# Altium footprint library cahrgebot_digital.PcbLib: 72 footprints (part 4 of 5)
Each footprint in its own frame and in the unit in brackets; x right, y up, seen from the top. Pads: shape width x height; smd on the part's side, far side on the other; paste and mask are expansions set on the pad; w line width, h text height; cw(c..) or ccw(c..) is an arc to the next point about the centre after c.
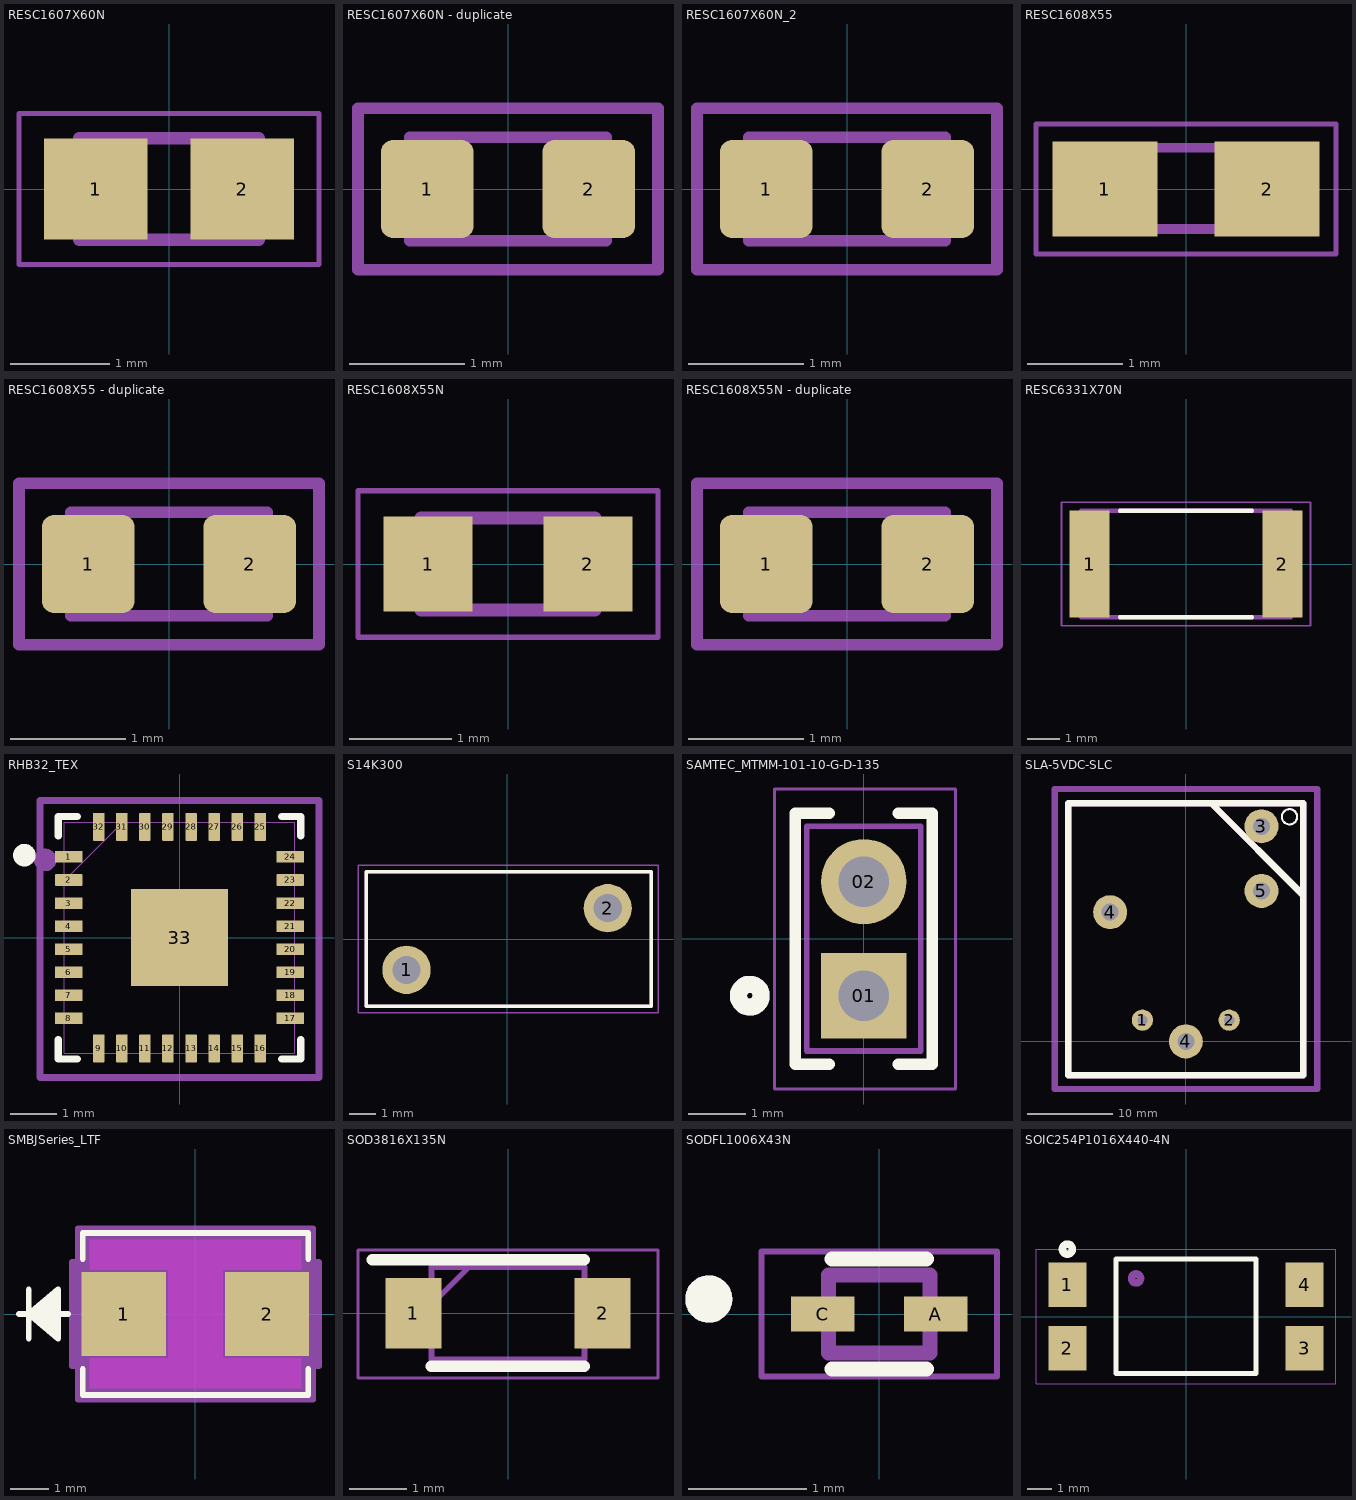
[diagram p3: the footprints below, top view; thin cyan lines are the x and y axes]

## RESC1607X60N [mm]
pads (2):
  rect 1.04x1.02 smd: 1(-0.735,0) 2(0.735,0)
Mechanical 13:
  lines w0.127: -0.9,-0.51 -0.9,0.51 0.9,0.51 0.9,-0.51 -0.9,-0.51
Mechanical 15:
  lines w0.05: -1.508,-0.761 -1.508,0.761 1.508,0.761 1.508,-0.761 -1.508,-0.761

## RESC1607X60N - duplicate [mm]
height 0.9
pads (2):
  rrect25% 0.8x0.85 smd mask+0.076: 1(-0.7,0) 2(0.7,0)
Top Component Outline:
  lines w0.1: -0.85,-0.45 -0.85,0.45 0.85,0.45 0.85,-0.45 -0.85,-0.45
Top Courtyard:
  lines w0.1: -1.3,-0.7 -1.3,0.7 1.3,0.7 1.3,-0.7 -1.3,-0.7
Top Designator:
  text ".Designator" at -3.627,1.19 h1.52
3D body "User Library-SMD CAPACITOR.SLDPRT": height 0.78, standoff -0.02, extent -0.8,-0.4 0.8,0.4

## RESC1607X60N_2 [mm]
height 0.9
pads (2):
  rrect25% 0.8x0.85 smd mask+0.076: 1(-0.7,0) 2(0.7,0)
Top Component Outline:
  lines w0.1: -0.85,-0.45 -0.85,0.45 0.85,0.45 0.85,-0.45 -0.85,-0.45
Top Courtyard:
  lines w0.1: -1.3,-0.7 -1.3,0.7 1.3,0.7 1.3,-0.7 -1.3,-0.7
Top Designator:
  text ".Designator" at -3.627,1.19 h1.52
3D body "User Library-SMD CAPACITOR.SLDPRT": height 0.78, standoff -0.02, extent -0.8,-0.4 0.8,0.4

## RESC1608X55 [mm]
pads (2):
  rect 1.1x1 smd: 1(-0.85,0) 2(0.85,0)
Mechanical 13:
  lines w0.102: -0.356,-0.419 0.356,-0.419 ; -0.356,0.432 0.356,0.432
Mechanical 15:
  lines w0.051: -1.573,-0.683 -1.573,0.683 1.573,0.683 1.573,-0.683 -1.573,-0.683

## RESC1608X55 - duplicate [mm]
height 0.55
pads (2):
  rrect25% 0.8x0.85 smd mask+0.076: 1(-0.7,0) 2(0.7,0)
Top Component Outline:
  lines w0.1: -0.85,-0.45 0.85,-0.45 0.85,0.45 -0.85,0.45 -0.85,-0.45
Top Courtyard:
  lines w0.1: -1.3,-0.7 1.3,-0.7 1.3,0.7 -1.3,0.7 -1.3,-0.7
Top Designator:
  text ".Designator" at -3.627,1.19 h1.52
3D body "User Library-SMD CAPACITOR.SLDPRT": height 0.78, standoff -0.02, extent -0.8,-0.4 0.8,0.4

## RESC1608X55N [mm]
pads (2):
  rect 0.87x0.93 smd: 1(-0.78,0) 2(0.78,0)
Mechanical 13:
  lines w0.127: -0.85,-0.45 -0.85,0.45 0.85,0.45 0.85,-0.45 -0.85,-0.45
Mechanical 15:
  lines w0.05: -1.465,-0.715 -1.465,0.715 1.465,0.715 1.465,-0.715 -1.465,-0.715
3D body "step_temp.STEP": height 0.55, standoff 0, extent -0.8,-0.4 0.8,0.4

## RESC1608X55N - duplicate [mm]
height 0.9
pads (2):
  rrect25% 0.8x0.85 smd mask+0.076: 1(-0.7,0) 2(0.7,0)
Top Component Outline:
  lines w0.1: -0.85,-0.45 0.85,-0.45 0.85,0.45 -0.85,0.45 -0.85,-0.45
Top Courtyard:
  lines w0.1: -1.3,-0.7 1.3,-0.7 1.3,0.7 -1.3,0.7 -1.3,-0.7
Top Designator:
  text ".Designator" at -3.627,1.19 h1.52
3D body "User Library-SMD CAPACITOR.SLDPRT": height 0.78, standoff -0.02, extent -0.8,-0.4 0.8,0.4

## RESC6331X70N [mm]
pads (2):
  rect 1.24x3.32 smd: 1(-2.99,0) 2(2.99,0)
Top Overlay:
  lines w0.127: -2.05,-1.65 2.05,-1.65 ; -2.05,1.65 2.05,1.65
Top Component Outline:
  lines w0.127: -3.25,-1.65 -3.25,1.65 3.25,1.65 3.25,-1.65 -3.25,-1.65
Top Courtyard:
  lines w0.05: -3.858,-1.91 -3.858,1.91 3.858,1.91 3.858,-1.91 -3.858,-1.91
Top Designator:
  text ".Designator" at -3.605,2.398 h1.52
3D body "step_temp.STEP": height 0.7, standoff 0, extent -3.15,-1.575 3.15,1.575

## RHB32_TEX [mm]
height 1
pads (33):
  rrect10% 0.6x0.25 smd paste-2.1 mask+0.076: 1(-2.4,1.75) 2(-2.4,1.25) 3(-2.4,0.75) 4(-2.4,0.25) 5(-2.4,-0.25) 6(-2.4,-0.75) 7(-2.4,-1.25) 8(-2.4,-1.75) 17(2.4,-1.75) 18(2.4,-1.25) 19(2.4,-0.75) 20(2.4,-0.25) 21(2.4,0.25) 22(2.4,0.75) 23(2.4,1.25) 24(2.4,1.75)
  rrect10% 0.25x0.6 smd paste-2.1 mask+0.076: 9(-1.75,-2.4) 10(-1.25,-2.4) 11(-0.75,-2.4) 12(-0.25,-2.4) 13(0.25,-2.4) 14(0.75,-2.4) 15(1.25,-2.4) 16(1.75,-2.4) 25(1.75,2.4) 26(1.25,2.4) 27(0.75,2.4) 28(0.25,2.4) 29(-0.25,2.4) 30(-0.75,2.4) 31(-1.25,2.4) 32(-1.75,2.4)
  rect 2.1x2.1 smd paste-2.1 mask+0.076: 33(0,0)
Top Overlay:
  circle w0.254: c-3.361,1.787 r0.117
  lines w0.152: -2.627,-2.208 -2.627,-2.627 -2.208,-2.627 ; -2.627,2.208 -2.627,2.627 -2.208,2.627 ; 2.208,-2.627 2.627,-2.627 2.627,-2.208 ; 2.208,2.627 2.627,2.627 2.627,2.208
Top Paste:
  region: 1.04,-0.1 0.1,-0.1 0.1,-1.04 1.04,-1.04
  region: 1.04,1.04 0.1,1.04 0.1,0.1 1.04,0.1
  region: -0.1,-0.1 -1.04,-0.1 -1.04,-1.04 -0.1,-1.04
  region: -0.1,1.04 -1.04,1.04 -1.04,0.1 -0.1,0.1
Top Component Outline:
  circle w0.254: c-2.909,1.684 r0.117
  lines w0.025: -2.5,1.23 -1.23,2.5 ; -2.5,-2.5 -2.5,2.5 2.5,2.5 2.5,-2.5 -2.5,-2.5
Top Courtyard:
  lines w0.152: -3.025,-3.03 3.022,-3.03 3.022,2.973 -3.025,2.973 -3.025,-3.03
Top Designator:
  text ".Designator" at -3.655,3.303 h1.52
3D body "RHB0032M.stp": height 1, standoff 0, extent -2.5,-2.5 2.5,2.5

## S14K300 [mm]
height 18.5
pads (2):
  round 1.8 hole 1.05: 1(-3.75,-1.15) 2(3.75,1.15)
Top Overlay:
  lines w0.127: -5.248,-2.5 -5.248,2.5 5.377,2.5 5.377,-2.5 -5.248,-2.5
Top Component Outline:
  lines w0.127: -5.248,-2.5 5.377,-2.5 5.377,2.5 -5.248,2.5 -5.248,-2.5
Top Courtyard:
  lines w0.05: -5.56,-2.75 5.626,-2.75 5.626,2.75 -5.56,2.75 -5.56,-2.75

## SAMTEC_MTMM-101-10-G-D-135 [mm]
height 1.5
pads (2):
  rect 1.5x1.5 hole 0.89: 01(0,-1)
  round 1.5 hole 0.89: 02(0,1)
Top Overlay:
  circle w0.3: c-2,-1 r0.2
  lines w0.2: -0.605,-2.2 -1.2,-2.2 -1.2,2.2 -0.605,2.2 ; 0.605,-2.2 1.2,-2.2 1.2,2.2 0.605,2.2
Top Component Outline:
  circle w0.3: c-2,-1 r0.2
  lines w0.1: -1,-1.97 1,-1.97 1,1.97 -1,1.97 -1,-1.97
Top Courtyard:
  lines w0.05: -1.568,-2.637 1.611,-2.637 1.611,2.626 -1.568,2.626 -1.568,-2.637
Top Designator:
  text ".Designator" at -3.425,2.955 h1.52

## SLA-5VDC-SLC [mm] "Relay 5V - 30A"
height 19.8
pads (6):
  round 2.5 hole 1.2: 1(-5.1,2.5) 2(5.1,2.5)
  round 4 hole 2: 3(8.9,25.3) 4(-8.9,15.2) 4(0,0) 5(8.9,17.7)
Top Overlay:
  circle w0.254: c12.192,26.416 r0.898
  lines w0.762: 3.048,27.94 13.716,17.272 ; -13.8,-4 13.8,-4 13.8,28 -13.8,28 -13.8,-4
Top Component Outline:
  lines w0.762: 3.048,27.94 13.716,17.272 ; -13.8,-4 13.8,-4 13.8,28 -13.8,28 -13.8,-4
Top Courtyard:
  lines w0.762: -15.437,-5.596 15.481,-5.596 15.481,29.682 -15.437,29.682 -15.437,-5.596
Top Designator:
  text ".Designator" at -4.05,30.799 h1.52

## SMBJSeries_LTF [mil]
pads (2):
  rect 86x86 smd paste+0 mask+0: 1(-73,0) 2(73,0)
Top Layer keep-out:
  region: -108,-75.5 -108,-45 108,-45 108,-75.5
  region: -108,45 -108,75.5 108,75.5 108,45
  region: -28,-45 -28,45 28,45 28,-45
Top Overlay:
  lines w6: -180,0 -130,0 ; -170,-25 -170,25 ; -140,-20 -170,0 ; -140,-15 -170,0 ; -140,-10 -170,0 ; -140,-5 -170,0 ; -140,5 -170,0 ; -140,10 -170,0 ; -140,15 -170,0 ; -140,20 -170,0 ; -115,-56.1 -115,-82.5 115,-82.5 115,-56.1 ; -115,56.1 -115,82.5 115,82.5 115,56.1 ; -170,0 -140,-25 -140,25 -170,0
Keep-Out Layer:
  region: -28,-45 -28,45 28,45 28,-45
Mechanical 13:
  lines w1: -180,0 -130,0 ; -170,-25 -170,25 ; -140,-20 -170,0 ; -140,-15 -170,0 ; -140,-10 -170,0 ; -140,-5 -170,0 ; -140,5 -170,0 ; -140,10 -170,0 ; -140,15 -170,0 ; -140,20 -170,0 ; -170,0 -140,-25 -140,25 -170,0 ; -110,-77.5 -110,77.5 110,77.5 110,-77.5 -110,-77.5
Mechanical 15:
  region: -120,-53 -126,-53 -126,53 -120,53 -120,87.5 120,87.5 120,53 126,53 126,-53 120,-53 120,-87.5 -120,-87.5
  lines w6: -126,-53 -120,-53 -120,-87.5 120,-87.5 120,-53 126,-53 126,53 120,53 120,87.5 -120,87.5 -120,53 -126,53 -126,-53
3D body "SMBJSeries_LTF.step": height 97.99, standoff 0, extent -110,-77.48 110,77.48

## SOD3816X135N [mm]
height 1.35
pads (2):
  rect 0.97x1.22 smd mask+0.076: 1(-1.64,0) 2(1.64,0)
Top Overlay:
  lines w0.2: -2.35,0.928 1.325,0.928 ; -1.331,-0.922 1.319,-0.922
Top Component Outline:
  lines w0.1: -1.325,0.15 -0.675,0.8 ; -1.325,-0.8 -1.325,0.8 1.325,0.8 1.325,-0.8 -1.325,-0.8
Top Courtyard:
  lines w0.05: -2.6,-1.125 -2.6,1.1 2.6,1.1 2.6,-1.125 -2.6,-1.125
Top Designator:
  text ".Designator" at -3.489,1.643 h1.52
3D body "1N4148W_R1_00001.stp": height 1.35, standoff 0, extent -1.875,-0.8 1.875,0.8

## SODFL1006X43N [mm]
pads (2):
  rect 0.54x0.3 smd: A(0.48,0) C(-0.48,0)
Top Overlay:
  circle w0.2: c-1.446,0.127 r0.1
  lines w0.127: -0.4,-0.465 0.4,-0.465 ; -0.4,0.465 0.4,0.465
Mechanical 13:
  circle w0.2: c-1.446,0.127 r0.1
  lines w0.127: -0.43,-0.33 0.43,-0.33 0.43,0.33 -0.43,0.33 -0.43,-0.33
Mechanical 15:
  lines w0.05: -1,-0.53 1,-0.53 1,0.53 -1,0.53 -1,-0.53
3D body "step_temp.STEP": height 0.4, standoff 0, extent -0.5,-0.3 0.5,0.3

## SOIC254P1016X440-4N [mm]
height 3.8
pads (4):
  rect 1.52x1.78 smd: 1(-4.76,1.27) 2(-4.76,-1.27) 3(4.76,-1.27) 4(4.76,1.27)
Top Overlay:
  circle w0.3: c-4.758,2.703 r0.2
  lines w0.2: -2.8,2.29 -2.8,-2.29 2.8,-2.29 2.8,2.29 ; -2.8,2.3 2.8,2.3
Top Component Outline:
  circle w0.3: c-2.003,1.53 r0.18
Top Courtyard:
  lines w0.05: -6.02,-2.7 -6.02,2.7 6.02,2.7 6.02,-2.7 -6.02,-2.7
Top Designator:
  text ".Designator" at -3.434,3.202 h1.52
3D body "step_temp.STEP": height 1.75, standoff -1.94, extent -5.08,-2.29 5.08,2.29